# Altium footprint library G6SK-2F-TRDC3.PcbLib: 1 footprints
Each footprint in its own frame and in the unit in brackets; x right, y up, seen from the top. Pads: shape width x height; smd on the part's side, far side on the other; paste and mask are expansions set on the pad; w line width, h text height; cw(c..) or ccw(c..) is an arc to the next point about the centre after c.
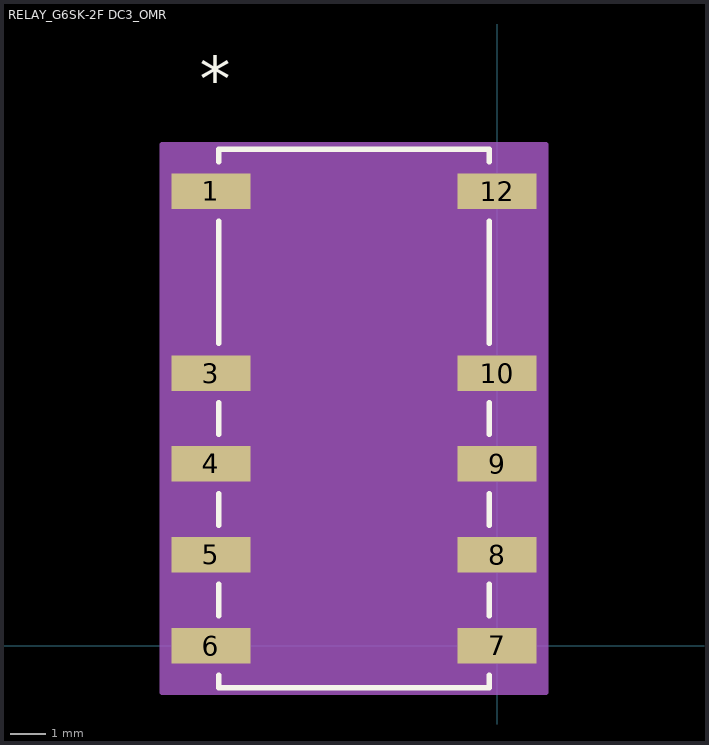
[diagram p0: the footprint, top view; thin cyan lines are the x and y axes]

## RELAY_G6SK-2F DC3_OMR [mil]
pads (10):
  rect 87x39 smd paste+0 mask+0: 1(-314.96,500) 3(-314.96,300) 4(-314.96,200) 5(-314.96,100) 6(-314.96,0) 7(0,0) 8(0,100) 9(0,200) 10(0,300) 12(0,500)
Top Overlay:
  lines w6: -306.18,-32.6 -306.18,-46.34 -8.78,-46.34 -8.78,-32.6 ; -306.18,32.6 -306.18,67.4 ; -306.18,132.6 -306.18,167.4 ; -306.18,232.6 -306.18,267.4 ; -306.18,332.6 -306.18,467.4 ; -306.18,532.6 -306.18,546.34 -8.78,546.34 -8.78,532.6 ; -8.78,32.6 -8.78,67.4 ; -8.78,132.6 -8.78,167.4 ; -8.78,232.6 -8.78,267.4 ; -8.78,332.6 -8.78,467.4
  text "*" at -327.46,599.34 h50
  text ".Designator" at -294.98,225 h50
Mechanical 13:
  circle w1: c-271.46,500 r0
  lines w1: -169.48,541.34 ccw(c-157.48,541.34) -145.48,541.34 ; -301.18,-41.34 -13.78,-41.34 -13.78,541.34 -301.18,541.34 -301.18,-41.34
  text ".Designator" at -294.98,225 h50
  text "*" at -327.46,516.67 h50
Mechanical 15:
  region: 53.5,-51.34 -368.46,-51.34 -368.46,551.34 53.5,551.34
  region: -13.78,-41.34 -301.18,-41.34 -301.18,541.34 -13.78,541.34
  lines w6: -368.46,-51.34 -368.46,551.34 53.5,551.34 53.5,-51.34 -368.46,-51.34